# EAGLE library part 5034801000 (library 5034801000)
0.50mm Pitch Easy-On™ BackFlip™ Type FPC Connector, 1.00mm Height, Right Angle, Surface Mount, Dual Contact Style
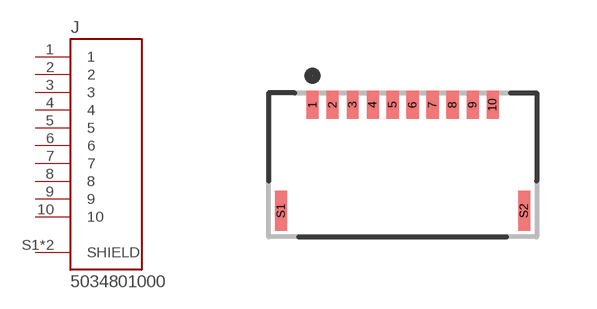
[diagram p0: symbol with the pads of MOLEX_5034801000; footprint MOLEX_5034801000]

Designator prefix J

## 5034801000 (Description: 10 Position FFC, FPC Connector Contacts, Top and Bottom 0.020 (0.50mm) Surface Mount, Right Angle; Digi-Key_Part_Number: WM1389CT-ND; MF: Molex; MP: 5034801000; Package: None; Purchase-URL: https://pricing.snapeda.com/search/part/5034801000/?ref=eda)  [MOLEX_5034801000]
1  1  pas
2  2  pas
3  3  pas
4  4  pas
5  5  pas
6  6  pas
7  7  pas
8  8  pas
9  9  pas
10  10  pas
S1  SHIELD  pas
S2  SHIELD  pas

## Footprint MOLEX_5034801000 (pad centres in mm)
smd 0.3 x 0.7: 1 -2.25,0; 2 -1.75,0; 3 -1.25,0; 4 -0.75,0; 5 -0.25,0; 6 0.25,0; 7 0.75,0; 8 1.25,0; 9 1.75,0; 10 2.25,0
smd 0.3 x 1: S1 -3.04,-2.65; S2 3.04,-2.65